# Altium footprint library XTAL_HC49P488W43L1085T450H368.PcbLib: 1 footprints
Each footprint in its own frame and in the unit in brackets; x right, y up, seen from the top. Pads: shape width x height; smd on the part's side, far side on the other; paste and mask are expansions set on the pad; w line width, h text height; cw(c..) or ccw(c..) is an arc to the next point about the centre after c.
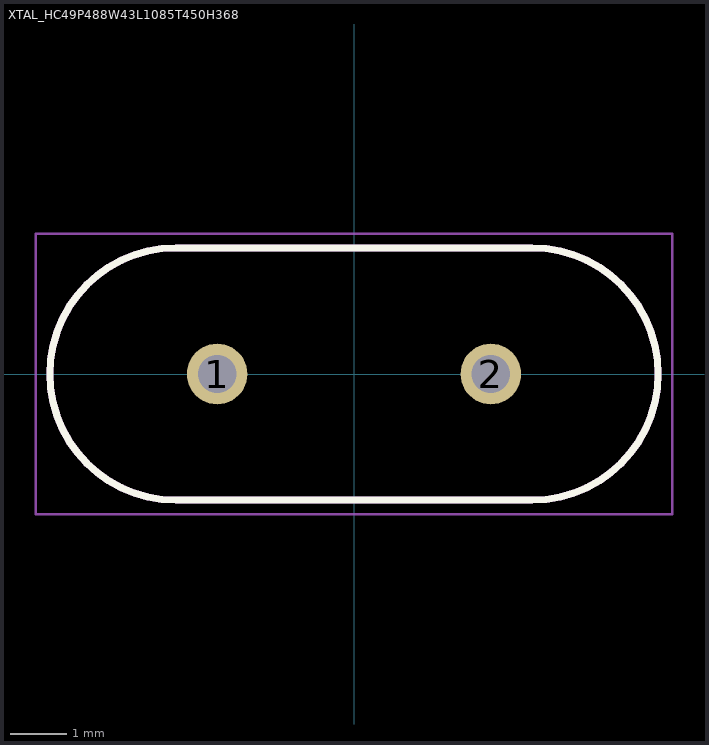
[diagram p0: the footprint, top view; thin cyan lines are the x and y axes]

## XTAL_HC49P488W43L1085T450H368 [mm]
pads (2):
  round 1.08 hole 0.68: 1(-2.44,0) 2(2.44,0)
Top Overlay:
  lines w0.127: -5.425,0 cw(c-3.175,0) -3.175,2.25 3.175,2.25 cw(c3.175,0) 5.425,0 cw(c3.175,0) 3.175,-2.25 -3.175,-2.25 cw(c-3.175,0) -5.425,0
Mechanical 13:
  lines w0.127: -5.425,0 cw(c-3.175,0) -3.175,2.25 3.175,2.25 cw(c3.175,0) 5.425,0 cw(c3.175,0) 3.175,-2.25 -3.175,-2.25 cw(c-3.175,0) -5.425,0
Mechanical 15:
  lines w0.05: -5.675,-2.5 -5.675,2.5 5.675,2.5 5.675,-2.5 -5.675,-2.5